# Altium schematic symbol library V_16.schlib: 4 symbols
Pins are listed as number, name and electrical type; pins without a type are passive.

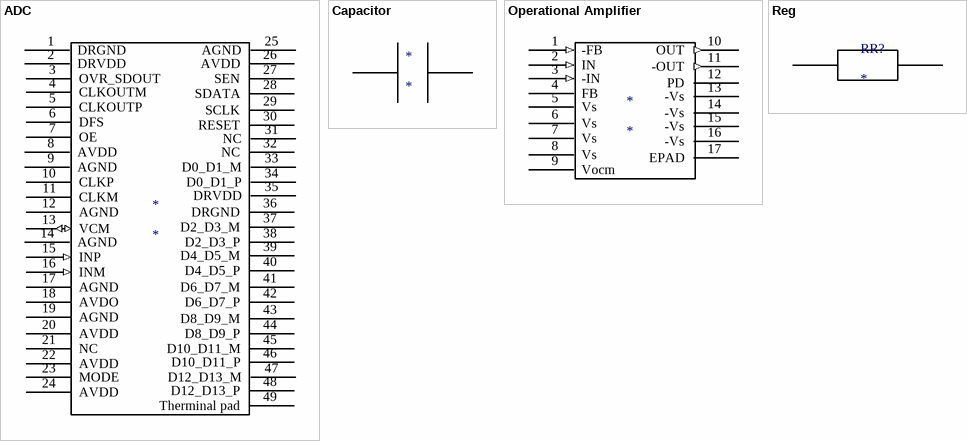
[diagram p0: symbols ADC to Reg]

## ADC
designator *
pins: 1 DRGND, 2 DRVDD, 3 OVR_SDOUT, 4 CLKOUTM, 5 CLKOUTP, 6 DFS, 7 OE, 8 AVDD, 9 AGND, 10 CLKP, 11 CLKM, 12 AGND, 13 VCM (io), 14 AGND, 15 INP (in), 16 INM (in), 17 AGND, 18 AVDO, 19 AGND, 20 AVDD, 21 NC, 22 AVDD, 23 MODE, 24 AVDD, 25 AGND, 26 AVDD, 27 SEN, 28 SDATA, 29 SCLK, 30 RESET, 31 NC, 32 NC, 33 D0_D1_M, 34 D0_D1_P, 35 DRVDD, 36 DRGND, 37 D2_D3_M, 38 D2_D3_P, 39 D4_D5_M, 40 D4_D5_P, 41 D6_D7_M, 42 D6_D7_P, 43 D8_D9_M, 44 D8_D9_P, 45 D10_D11_M, 46 D10_D11_P, 47 D12_D13_M, 48 D12_D13_P, 49 Therminal pad

## Capacitor
designator *
pins: 1, 2

## Operational Amplifier
designator *
footprint LCC127P300X275X100-20N (LCC, 20-Pins, Body 3,0x2,8mm (max), Pitch 1,27mm, IPC Medium Density)
pins: 1 -FB (in), 2 IN (in) "negative", 3 -IN (in), 4 FB, 5 Vs, 6 Vs, 7 Vs, 8 Vs, 9 Vocm, 10 OUT (out), 11 -OUT (out), 12 PD, 13 -Vs, 14 -Vs, 15 -Vs, 16 -Vs, 17 EPAD (power)

## Reg
designator RR?
footprint R_0.0085
pins: 1, 2